# EAGLE library part RJ45* (library netnode)
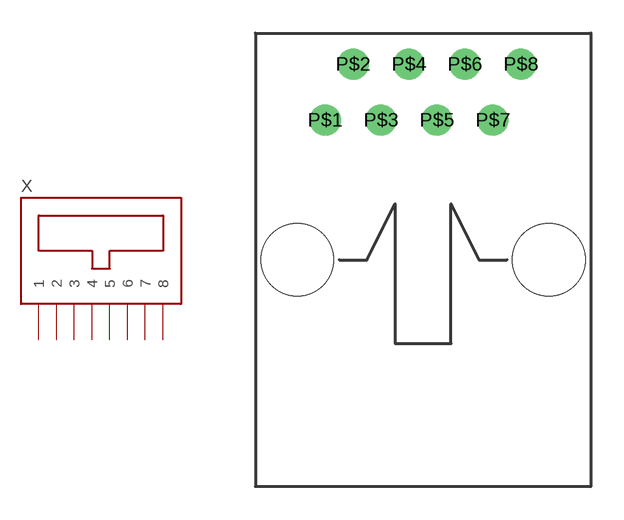
[diagram p3: symbol with the pads of RJ45H; footprint RJ45H]

Designator prefix X

## RJ45H  [RJ45H]
P$1  1
P$2  2
P$3  3
P$4  4
P$5  5
P$6  6
P$7  7
P$8  8

## Footprint RJ45H (pad centres in mm)
drill 0.9 round: P$1 -4.445,6.35; P$2 -3.175,8.89; P$3 -1.905,6.35; P$4 -0.635,8.89; P$5 0.635,6.35; P$6 1.905,8.89; P$7 3.175,6.35; P$8 4.445,8.89
hole 3.3 at -5.715,0
hole 3.3 at 5.715,0